# Altium integrated library LTST-C190KGKT.IntLib: 1 symbol
Pins are listed as number, name and electrical type; pins without a type are passive.

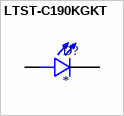
[diagram p0: symbol LTST-C190KGKT]

## LTST-C190KGKT
designator D?
MF: {'manufacturer': u'Lite-On Inc.'}; MP: LTST-C190KGKT; Package: None; Price: None; Value: *; Availability: Unavailable
footprint LEDC1608X35N
pins: A, C